# EAGLE library part STM32F103RET6 (library STMBerry)
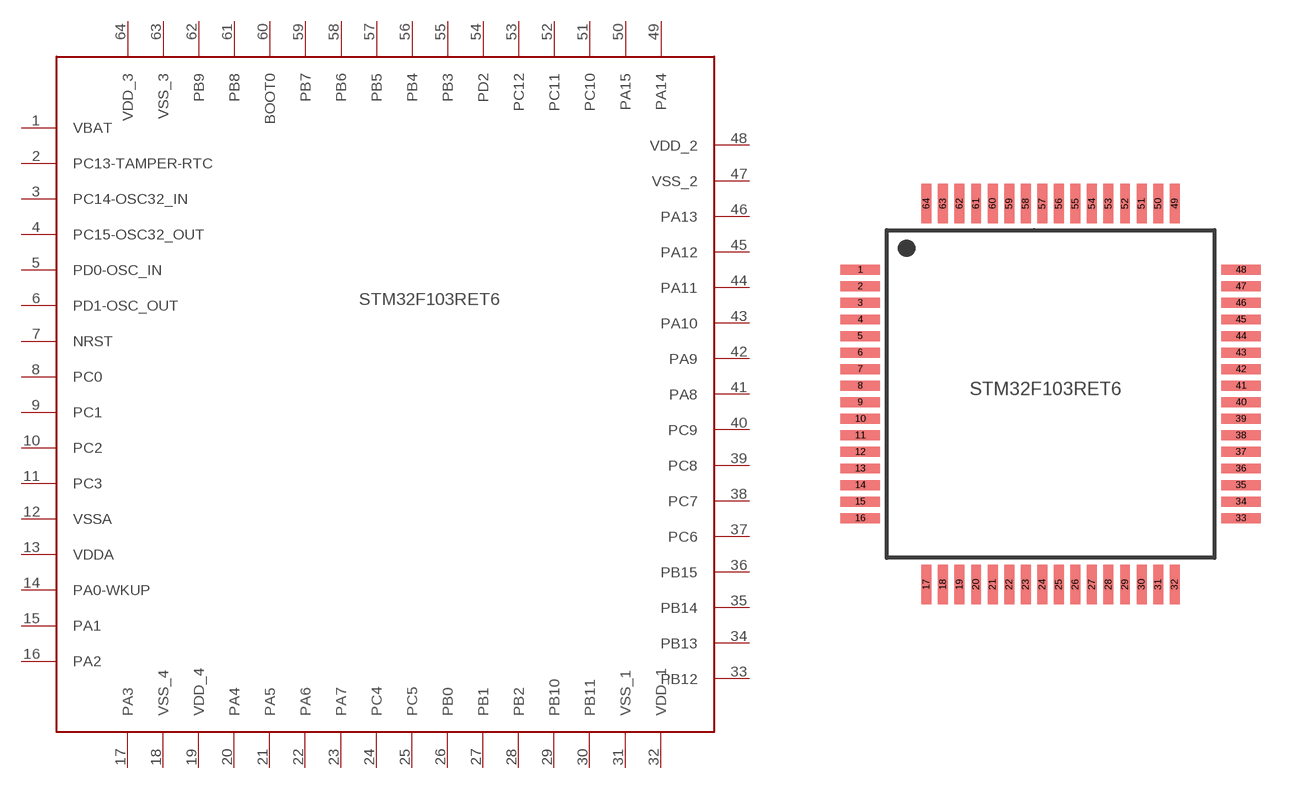
[diagram p0: symbol with the pads of LQFP64_10X10MM_0.5MMPP; footprint LQFP64_10X10MM_0.5MMPP]

Designator prefix -

## STM32F103RET6  [LQFP64_10X10MM_0.5MMPP]
1  VBAT
2  PC13-TAMPER-RTC
3  PC14-OSC32_IN
4  PC15-OSC32_OUT
5  PD0-OSC_IN
6  PD1-OSC_OUT
7  NRST
8  PC0
9  PC1
10  PC2
11  PC3
12  VSSA
13  VDDA
14  PA0-WKUP
15  PA1
16  PA2
17  PA3
18  VSS_4
19  VDD_4
20  PA4
21  PA5
22  PA6
23  PA7
24  PC4
25  PC5
26  PB0
27  PB1
28  PB2
29  PB10
30  PB11
31  VSS_1
32  VDD_1
33  PB12
34  PB13
35  PB14
36  PB15
37  PC6
38  PC7
39  PC8
40  PC9
41  PA8
42  PA9
43  PA10
44  PA11
45  PA12
46  PA13
47  VSS_2
48  VDD_2
49  PA14
50  PA15
51  PC10
52  PC11
53  PC12
54  PD2
55  PB3
56  PB4
57  PB5
58  PB6
59  PB7
60  BOOT0
61  PB8
62  PB9
63  VSS_3
64  VDD_3

## Footprint LQFP64_10X10MM_0.5MMPP (pad centres in mm)
smd 1.2 x 0.3: 1 -5.25,3.25; 2 -5.25,2.75; 3 -5.25,2.25; 4 -5.25,1.75; 5 -5.25,1.25; 6 -5.25,0.75; 7 -5.25,0.25; 8 -5.25,-0.25; 9 -5.25,-0.75; 10 -5.25,-1.25; 11 -5.25,-1.75; 12 -5.25,-2.25; 13 -5.25,-2.75; 14 -5.25,-3.25; 15 -5.25,-3.75; 16 -5.25,-4.25; 33 6.25,-4.25; 34 6.25,-3.75; 35 6.25,-3.25; 36 6.25,-2.75; 37 6.25,-2.25; 38 6.25,-1.75; 39 6.25,-1.25; 40 6.25,-0.75; 41 6.25,-0.25; 42 6.25,0.25; 43 6.25,0.75; 44 6.25,1.25; 45 6.25,1.75; 46 6.25,2.25; 47 6.25,2.75; 48 6.25,3.25
smd 0.3 x 1.2: 17 -3.25,-6.25; 18 -2.75,-6.25; 19 -2.25,-6.25; 20 -1.75,-6.25; 21 -1.25,-6.25; 22 -0.75,-6.25; 23 -0.25,-6.25; 24 0.25,-6.25; 25 0.75,-6.25; 26 1.25,-6.25; 27 1.75,-6.25; 28 2.25,-6.25; 29 2.75,-6.25; 30 3.25,-6.25; 31 3.75,-6.25; 32 4.25,-6.25; 49 4.25,5.25; 50 3.75,5.25; 51 3.25,5.25; 52 2.75,5.25; 53 2.25,5.25; 54 1.75,5.25; 55 1.25,5.25; 56 0.75,5.25; 57 0.25,5.25; 58 -0.25,5.25; 59 -0.75,5.25; 60 -1.25,5.25; 61 -1.75,5.25; 62 -2.25,5.25; 63 -2.75,5.25; 64 -3.25,5.25